# EAGLE library part MAX1029BEEP+ (library Ultrasound)
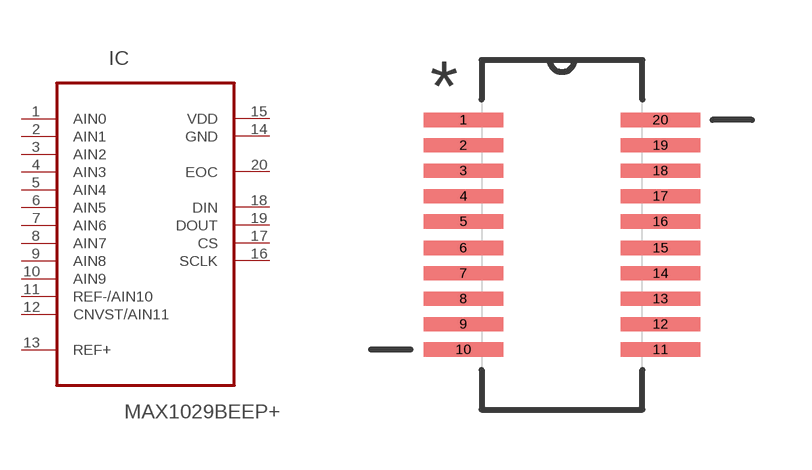
[diagram p2: symbol with the pads of SOP64P600X165-20N; footprint SOP64P600X165-20N]

Designator prefix IC

## MAX1029BEEP+  [SOP64P600X165-20N]
1  AIN0  in
2  AIN1  in
3  AIN2  in
4  AIN3  in
5  AIN4  in
6  AIN5  in
7  AIN6  in
8  AIN7  in
9  AIN8  in
10  AIN9  in
11  REF-/AIN10  in
12  CNVST/AIN11  in
13  REF+  in
14  GND  pwr
15  VDD  pwr
16  SCLK  in
17  CS  in
18  DIN  in
19  DOUT  out
20  EOC  out

## Footprint SOP64P600X165-20N (pad centres in mm)
smd 1.981 x 0.356: 1 -2.464,2.87; 2 -2.464,2.235; 3 -2.464,1.6; 4 -2.464,0.965; 5 -2.464,0.33; 6 -2.464,-0.33; 7 -2.464,-0.965; 8 -2.464,-1.6; 9 -2.464,-2.235; 10 -2.464,-2.87; 11 2.464,-2.87; 12 2.464,-2.235; 13 2.464,-1.6; 14 2.464,-0.965; 15 2.464,-0.33; 16 2.464,0.33; 17 2.464,0.965; 18 2.464,1.6; 19 2.464,2.235; 20 2.464,2.87